# Altium footprint library PJ-082BH.PcbLib: 1 footprints
Each footprint in its own frame and in the unit in brackets; x right, y up, seen from the top. Pads: shape width x height; smd on the part's side, far side on the other; paste and mask are expansions set on the pad; w line width, h text height; cw(c..) or ccw(c..) is an arc to the next point about the centre after c.
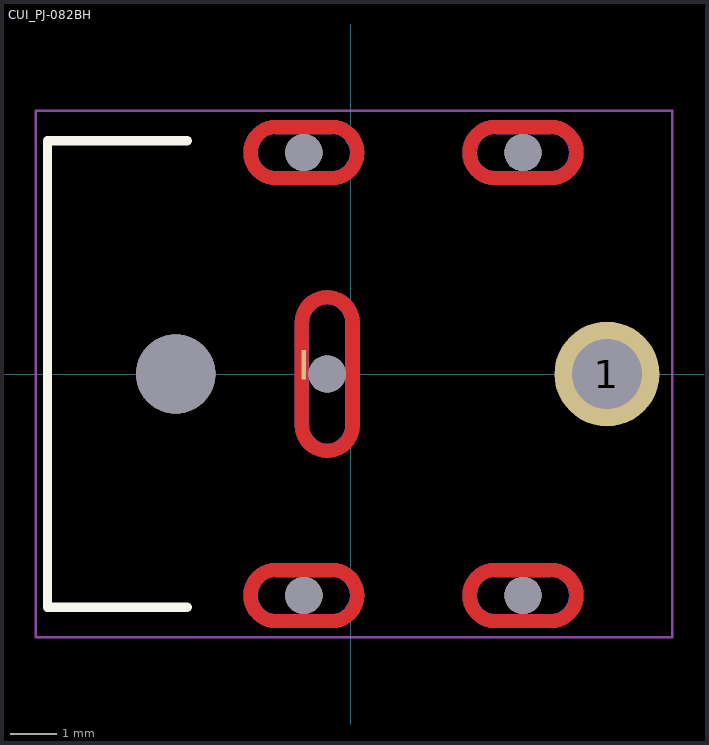
[diagram p0: the footprint, top view; thin cyan lines are the x and y axes]

## CUI_PJ-082BH [mm]
pads (8):
  round 2.25 hole 1.5: 1(5.5,0)
  rect 0.1x0.635 smd: 2(-1,0.2)
  round 1.7 hole 1.7 unplated: ""(-3.75,0)
  round 0.8 hole 0.8 unplated: ""(-1,-4.75) ""(-1,4.75) ""(-0.5,0) ""(3.7,-4.75) ""(3.7,4.75)
Top Layer:
  lines w0.3: -2.15,-4.75 cw(c-1.6,-4.75) -1.6,-4.2 -0.4,-4.2 cw(c-0.4,-4.75) 0.15,-4.75 cw(c-0.4,-4.75) -0.4,-5.3 -1.6,-5.3 cw(c-1.6,-4.75) -2.15,-4.75 ; -2.15,4.75 cw(c-1.6,4.75) -1.6,5.3 -0.4,5.3 cw(c-0.4,4.75) 0.15,4.75 cw(c-0.4,4.75) -0.4,4.2 -1.6,4.2 cw(c-1.6,4.75) -2.15,4.75 ; -1.05,-1.1 ccw(c-0.5,-1.1) -0.5,-1.65 ccw(c-0.5,-1.1) 0.05,-1.1 0.05,1.1 ccw(c-0.5,1.1) -0.5,1.65 ccw(c-0.5,1.1) -1.05,1.1 -1.05,-1.1 ; 2.55,-4.75 cw(c3.1,-4.75) 3.1,-4.2 4.3,-4.2 cw(c4.3,-4.75) 4.85,-4.75 cw(c4.3,-4.75) 4.3,-5.3 3.1,-5.3 cw(c3.1,-4.75) 2.55,-4.75 ; 2.55,4.75 cw(c3.1,4.75) 3.1,5.3 4.3,5.3 cw(c4.3,4.75) 4.85,4.75 cw(c4.3,4.75) 4.3,4.2 3.1,4.2 cw(c3.1,4.75) 2.55,4.75
Bottom Layer:
  lines w0.3: -2.15,-4.75 cw(c-1.6,-4.75) -1.6,-4.2 -0.4,-4.2 cw(c-0.4,-4.75) 0.15,-4.75 cw(c-0.4,-4.75) -0.4,-5.3 -1.6,-5.3 cw(c-1.6,-4.75) -2.15,-4.75 ; -2.15,4.75 cw(c-1.6,4.75) -1.6,5.3 -0.4,5.3 cw(c-0.4,4.75) 0.15,4.75 cw(c-0.4,4.75) -0.4,4.2 -1.6,4.2 cw(c-1.6,4.75) -2.15,4.75 ; -1.05,-1.1 ccw(c-0.5,-1.1) -0.5,-1.65 ccw(c-0.5,-1.1) 0.05,-1.1 0.05,1.1 ccw(c-0.5,1.1) -0.5,1.65 ccw(c-0.5,1.1) -1.05,1.1 -1.05,-1.1 ; 2.55,-4.75 cw(c3.1,-4.75) 3.1,-4.2 4.3,-4.2 cw(c4.3,-4.75) 4.85,-4.75 cw(c4.3,-4.75) 4.3,-5.3 3.1,-5.3 cw(c3.1,-4.75) 2.55,-4.75 ; 2.55,4.75 cw(c3.1,4.75) 3.1,5.3 4.3,5.3 cw(c4.3,4.75) 4.85,4.75 cw(c4.3,4.75) 4.3,4.2 3.1,4.2 cw(c3.1,4.75) 2.55,4.75
Top Overlay:
  lines w0.2: -3.5,-5 -6.5,-5 -6.5,5 -3.5,5
Top Paste:
  lines w0.3: -2.15,-4.75 cw(c-1.6,-4.75) -1.6,-4.2 -0.4,-4.2 cw(c-0.4,-4.75) 0.15,-4.75 cw(c-0.4,-4.75) -0.4,-5.3 -1.6,-5.3 cw(c-1.6,-4.75) -2.15,-4.75 ; -2.15,4.75 cw(c-1.6,4.75) -1.6,5.3 -0.4,5.3 cw(c-0.4,4.75) 0.15,4.75 cw(c-0.4,4.75) -0.4,4.2 -1.6,4.2 cw(c-1.6,4.75) -2.15,4.75 ; -1.05,-1.1 ccw(c-0.5,-1.1) -0.5,-1.65 ccw(c-0.5,-1.1) 0.05,-1.1 0.05,1.1 ccw(c-0.5,1.1) -0.5,1.65 ccw(c-0.5,1.1) -1.05,1.1 -1.05,-1.1 ; 2.55,-4.75 cw(c3.1,-4.75) 3.1,-4.2 4.3,-4.2 cw(c4.3,-4.75) 4.85,-4.75 cw(c4.3,-4.75) 4.3,-5.3 3.1,-5.3 cw(c3.1,-4.75) 2.55,-4.75 ; 2.55,4.75 cw(c3.1,4.75) 3.1,5.3 4.3,5.3 cw(c4.3,4.75) 4.85,4.75 cw(c4.3,4.75) 4.3,4.2 3.1,4.2 cw(c3.1,4.75) 2.55,4.75
Bottom Paste:
  lines w0.3: -2.15,-4.75 cw(c-1.6,-4.75) -1.6,-4.2 -0.4,-4.2 cw(c-0.4,-4.75) 0.15,-4.75 cw(c-0.4,-4.75) -0.4,-5.3 -1.6,-5.3 cw(c-1.6,-4.75) -2.15,-4.75 ; -2.15,4.75 cw(c-1.6,4.75) -1.6,5.3 -0.4,5.3 cw(c-0.4,4.75) 0.15,4.75 cw(c-0.4,4.75) -0.4,4.2 -1.6,4.2 cw(c-1.6,4.75) -2.15,4.75 ; -1.05,-1.1 ccw(c-0.5,-1.1) -0.5,-1.65 ccw(c-0.5,-1.1) 0.05,-1.1 0.05,1.1 ccw(c-0.5,1.1) -0.5,1.65 ccw(c-0.5,1.1) -1.05,1.1 -1.05,-1.1 ; 2.55,-4.75 cw(c3.1,-4.75) 3.1,-4.2 4.3,-4.2 cw(c4.3,-4.75) 4.85,-4.75 cw(c4.3,-4.75) 4.3,-5.3 3.1,-5.3 cw(c3.1,-4.75) 2.55,-4.75 ; 2.55,4.75 cw(c3.1,4.75) 3.1,5.3 4.3,5.3 cw(c4.3,4.75) 4.85,4.75 cw(c4.3,4.75) 4.3,4.2 3.1,4.2 cw(c3.1,4.75) 2.55,4.75
Mechanical 1:
  lines w0.001: -2,-4.75 cw(c-1.6,-4.75) -1.6,-4.35 -0.4,-4.35 cw(c-0.4,-4.75) 0,-4.75 cw(c-0.4,-4.75) -0.4,-5.15 -1.6,-5.15 cw(c-1.6,-4.75) -2,-4.75 ; -2,4.75 cw(c-1.6,4.75) -1.6,5.15 -0.4,5.15 cw(c-0.4,4.75) 0,4.75 cw(c-0.4,4.75) -0.4,4.35 -1.6,4.35 cw(c-1.6,4.75) -2,4.75 ; -0.9,-1.1 ccw(c-0.5,-1.1) -0.5,-1.5 ccw(c-0.5,-1.1) -0.1,-1.1 -0.1,1.1 ccw(c-0.5,1.1) -0.5,1.5 ccw(c-0.5,1.1) -0.9,1.1 -0.9,-1.1 ; 2.7,-4.75 cw(c3.1,-4.75) 3.1,-4.35 4.3,-4.35 cw(c4.3,-4.75) 4.7,-4.75 cw(c4.3,-4.75) 4.3,-5.15 3.1,-5.15 cw(c3.1,-4.75) 2.7,-4.75 ; 2.7,4.75 cw(c3.1,4.75) 3.1,5.15 4.3,5.15 cw(c4.3,4.75) 4.7,4.75 cw(c4.3,4.75) 4.3,4.35 3.1,4.35 cw(c3.1,4.75) 2.7,4.75
Mechanical 15:
  lines w0.05: -6.75,-5.65 -6.75,5.65 6.9,5.65 6.9,-5.65 -6.75,-5.65